# EAGLE library part STM32L431CBYX (library circuit_tree)
IC
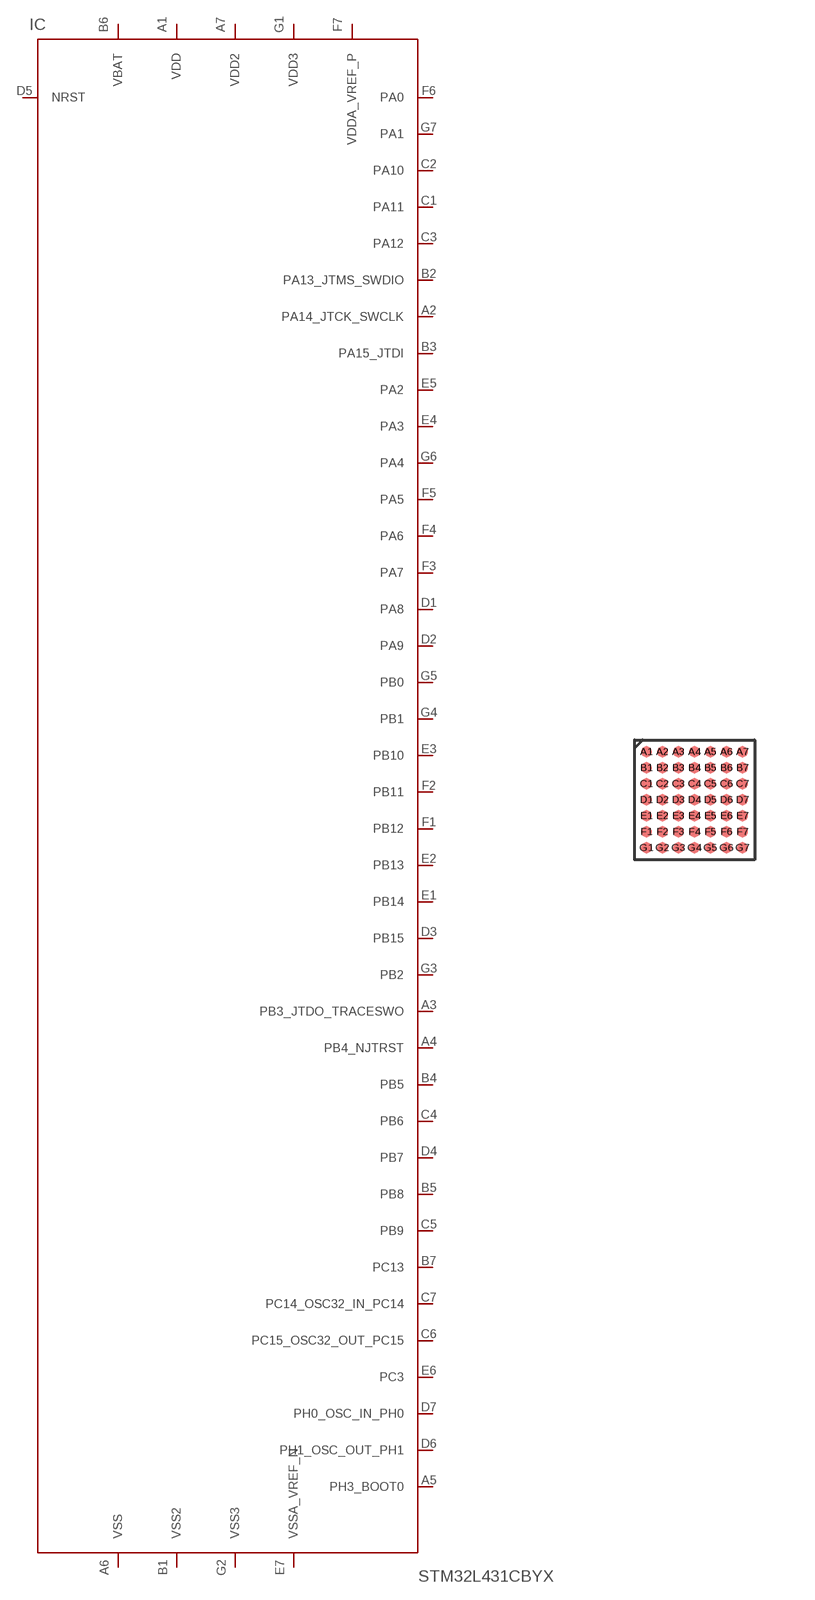
[diagram p8: symbol with the pads of WLCSP48; footprint WLCSP48]

Designator prefix IC

## STM32L431CBYX  [WLCSP48]
A1  VDD  pas
A2  PA14_JTCK_SWCLK  pas
A3  PB3_JTDO_TRACESWO  pas
A4  PB4_NJTRST  pas
A5  PH3_BOOT0  pas
A6  VSS  pas
A7  VDD2  pas
B1  VSS2  pas
B2  PA13_JTMS_SWDIO  pas
B3  PA15_JTDI  pas
B4  PB5  pas
B5  PB8  pas
B6  VBAT  pas
B7  PC13  pas
C1  PA11  pas
C2  PA10  pas
C3  PA12  pas
C4  PB6  pas
C5  PB9  pas
C6  PC15_OSC32_OUT_PC15  pas
C7  PC14_OSC32_IN_PC14  pas
D1  PA8  pas
D2  PA9  pas
D3  PB15  pas
D4  PB7  pas
D5  NRST  pas
D6  PH1_OSC_OUT_PH1  pas
D7  PH0_OSC_IN_PH0  pas
E1  PB14  pas
E2  PB13  pas
E3  PB10  pas
E4  PA3  pas
E5  PA2  pas
E6  PC3  pas
E7  VSSA_VREF_N  pas
F1  PB12  pas
F2  PB11  pas
F3  PA7  pas
F4  PA6  pas
F5  PA5  pas
F6  PA0  pas
F7  VDDA_VREF_P  pas
G1  VDD3  pas
G2  VSS3  pas
G3  PB2  pas
G4  PB1  pas
G5  PB0  pas
G6  PA4  pas
G7  PA1  pas

## Footprint WLCSP48 (pad centres in mm)
smd 0.28 x 0.28: A1 0,0; A2 0.4,0; A3 0.8,0; A4 1.2,0; A5 1.6,0; A6 2,0; A7 2.4,0; B1 0,-0.4; B2 0.4,-0.4; B3 0.8,-0.4; B4 1.2,-0.4; B5 1.6,-0.4; B6 2,-0.4; B7 2.4,-0.4; C1 0,-0.8; C2 0.4,-0.8; C3 0.8,-0.8; C4 1.2,-0.8; C5 1.6,-0.8; C6 2,-0.8; C7 2.4,-0.8; D1 0,-1.2; D2 0.4,-1.2; D3 0.8,-1.2; D4 1.2,-1.2; D5 1.6,-1.2; D6 2,-1.2; D7 2.4,-1.2; E1 0,-1.6; E2 0.4,-1.6; E3 0.8,-1.6; E4 1.2,-1.6; E5 1.6,-1.6; E6 2,-1.6; E7 2.4,-1.6; F1 0,-2; F2 0.4,-2; F3 0.8,-2; F4 1.2,-2; F5 1.6,-2; F6 2,-2; F7 2.4,-2; G1 0,-2.4; G2 0.4,-2.4; G3 0.8,-2.4; G4 1.2,-2.4; G5 1.6,-2.4; G6 2,-2.4; G7 2.4,-2.4